# Altium schematic symbol library AZ1117IH-5.0TRG1.SchLib: 1 symbol
Pins are listed as number, name and electrical type; pins without a type are passive.

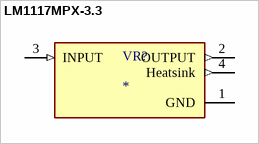
[diagram p0: symbol LM1117MPX-3.3]

## LM1117MPX-3.3
designator VR?
800-mA 15-V linear voltage regulator; MP: LM1117MPX-3.3; MF: Texas Instruments; Check_prices: https://www.snapeda.com/parts/LM1117MPX-3.3/Texas+Instruments/view-part/?ref=eda; Value: *; Availability: In Stock; Price: None; Package: SOT-223-4 Texas Instruments; SnapEDA_Link: https://www.snapeda.com/parts/LM1117MPX-3.3/Texas+Instruments/view-part/?ref=snap; Purchase-URL: https://pricing.snapeda.com/search/part/LM1117MPX-3.3/?ref=eda
footprint SOT230P700X185-4N
pins: 1 GND (power), 2 OUTPUT (out), 3 INPUT (in), 4 Heatsink (out)